# Altium schematic symbol library IFX007TAUMA1.Schlib: 1 symbol
Pins are listed as number, name and electrical type; pins without a type are passive.

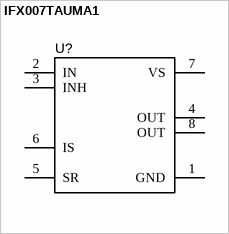
[diagram p0: symbol IFX007TAUMA1]

## IFX007TAUMA1
designator U?
Half Bridge Driver DC Motors, General Purpose Power MOSFET PG-TO263-7-1
pins: 1 GND (power), 2 IN, 3 INH, 4 OUT, 5 SR (power), 6 IS (power), 7 VS (power), 8 OUT